# Altium footprint library KF2EDGK.PcbLib: 86 footprints (part 3 of 6)
Each footprint in its own frame and in the unit in brackets; x right, y up, seen from the top. Pads: shape width x height; smd on the part's side, far side on the other; paste and mask are expansions set on the pad; w line width, h text height; cw(c..) or ccw(c..) is an arc to the next point about the centre after c.
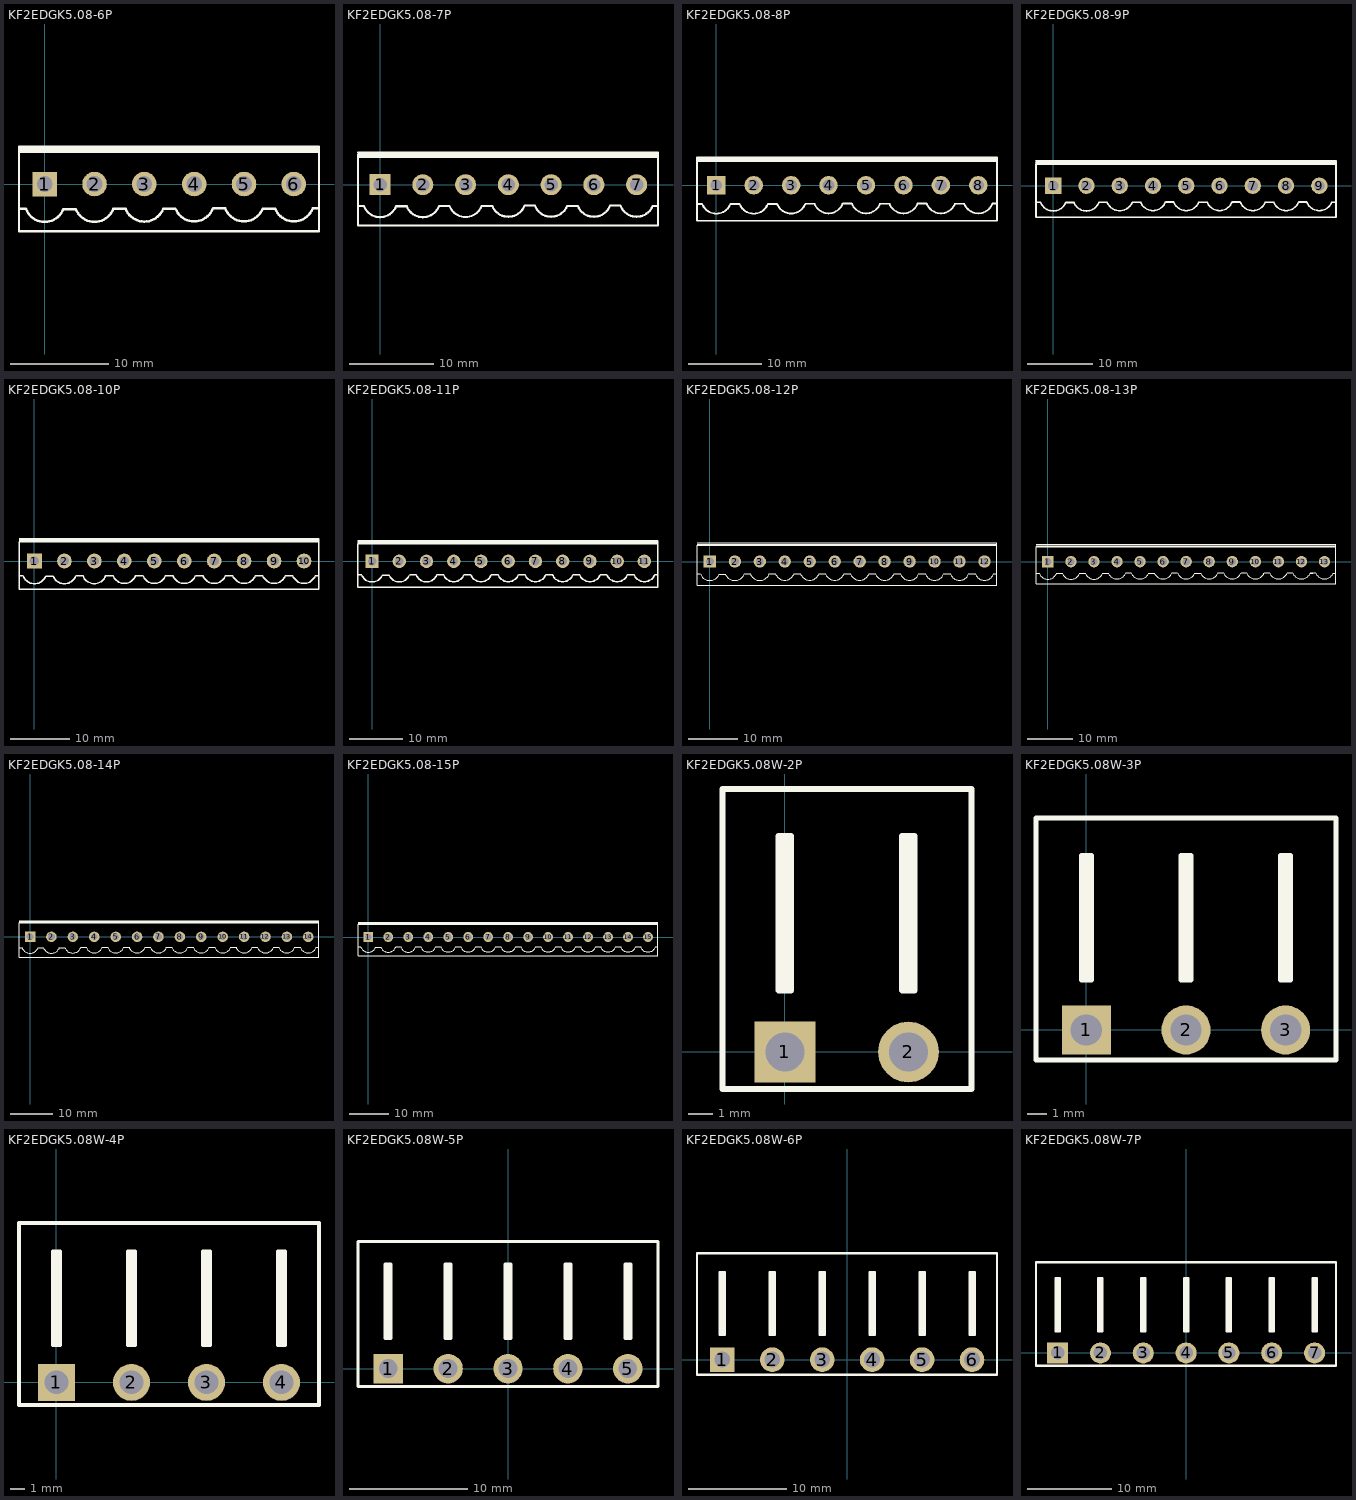
[diagram p2: the footprints below, top view; thin cyan lines are the x and y axes]

## KF2EDGK5.08-6P [mm]
pads (6):
  rect 2.5x2.5 hole 1.6: 1(0,0)
  round 2.5 hole 1.6: 2(5.08,0) 3(10.16,0) 4(15.24,0) 5(20.32,0) 6(25.4,0)
Top Overlay:
  lines w0.254: -2.62,3.302 27.965,3.302 ; -2.62,3.556 27.965,3.556 ; -2.54,-2.54 -1.93,-2.54 ; -1.905,-2.565 ccw(c0,-1.812) 1.905,-2.565 2.54,-2.565 3.175,-2.565 ccw(c5.08,-1.812) 6.985,-2.565 ; 7.01,-2.54 7.62,-2.54 8.255,-2.54 ccw(c10.16,-1.787) 12.065,-2.54 ; 12.09,-2.515 12.7,-2.515 13.335,-2.515 ccw(c15.24,-1.762) 17.145,-2.515 ; 17.17,-2.489 17.78,-2.489 18.39,-2.489 ; 18.415,-2.515 ccw(c20.32,-1.762) 22.225,-2.515 22.86,-2.515 23.495,-2.515 ccw(c25.4,-1.762) 27.305,-2.515 ; 27.33,-2.489 27.94,-2.489 ; -2.62,-4.826 -2.62,3.81 27.965,3.81 27.965,-4.826 -2.62,-4.826
3D body "KF2EDGK5.08-LI.STEP": height 11.25, standoff -2.95, extent 17.78,-4.758 22.86,3.742
3D body "KF2EDGK5.08-LI.STEP": height 11.25, standoff -2.95, extent 12.7,-4.758 17.78,3.742
3D body "KF2EDGK5.08-LI.STEP": height 11.25, standoff -2.95, extent 22.86,-4.758 27.94,3.742
3D body "KF2EDGK5.08-LI.STEP": height 11.25, standoff -2.95, extent 2.54,-4.758 7.62,3.742
3D body "KF2EDGK5.08-LI.STEP": height 11.25, standoff -2.95, extent -2.54,-4.758 2.54,3.742
3D body "KF2EDGK5.08-LI.STEP": height 11.25, standoff -2.95, extent 7.62,-4.758 12.7,3.742

## KF2EDGK5.08-7P [mm]
pads (7):
  rect 2.5x2.5 hole 1.6: 1(0,0)
  round 2.5 hole 1.6: 2(5.08,0) 3(10.16,0) 4(15.24,0) 5(20.32,0) 6(25.4,0) 7(30.48,0)
Top Overlay:
  lines w0.254: -2.62,3.302 33.02,3.302 ; -2.62,3.81 33.02,3.81 33.02,-4.826 -2.62,-4.826 -2.62,3.556 33.02,3.556 ; -2.54,-2.54 -1.93,-2.54 ; -1.905,-2.565 ccw(c0,-1.812) 1.905,-2.565 2.54,-2.565 3.175,-2.565 ccw(c5.08,-1.812) 6.985,-2.565 ; 7.01,-2.54 7.62,-2.54 8.255,-2.54 ccw(c10.16,-1.787) 12.065,-2.54 ; 12.09,-2.515 12.7,-2.515 13.335,-2.515 ccw(c15.24,-1.762) 17.145,-2.515 ; 17.17,-2.489 17.78,-2.489 18.39,-2.489 ; 18.415,-2.515 ccw(c20.32,-1.762) 22.225,-2.515 22.86,-2.515 23.495,-2.515 ccw(c25.4,-1.762) 27.305,-2.515 ; 27.33,-2.489 27.94,-2.489 28.55,-2.489 ; 28.575,-2.515 ccw(c30.48,-1.762) 32.385,-2.515 33.02,-2.515
3D body "KF2EDGK5.08-LI.STEP": height 11.25, standoff -2.95, extent 27.94,-4.758 33.02,3.742
3D body "KF2EDGK5.08-LI.STEP": height 11.25, standoff -2.95, extent 17.78,-4.758 22.86,3.742
3D body "KF2EDGK5.08-LI.STEP": height 11.25, standoff -2.95, extent 12.7,-4.758 17.78,3.742
3D body "KF2EDGK5.08-LI.STEP": height 11.25, standoff -2.95, extent 22.86,-4.758 27.94,3.742
3D body "KF2EDGK5.08-LI.STEP": height 11.25, standoff -2.95, extent 2.54,-4.758 7.62,3.742
3D body "KF2EDGK5.08-LI.STEP": height 11.25, standoff -2.95, extent -2.54,-4.758 2.54,3.742
3D body "KF2EDGK5.08-LI.STEP": height 11.25, standoff -2.95, extent 7.62,-4.758 12.7,3.742

## KF2EDGK5.08-8P [mm]
pads (8):
  rect 2.5x2.5 hole 1.6: 1(0,0)
  round 2.5 hole 1.6: 2(5.08,0) 3(10.16,0) 4(15.24,0) 5(20.32,0) 6(25.4,0) 7(30.48,0) 8(35.56,0)
Top Overlay:
  lines w0.254: -2.62,3.302 38.1,3.302 ; -2.62,3.556 38.1,3.556 ; -2.54,-2.54 -1.93,-2.54 ; -1.905,-2.565 ccw(c0,-1.812) 1.905,-2.565 2.54,-2.565 3.175,-2.565 ccw(c5.08,-1.812) 6.985,-2.565 ; 7.011,-2.54 7.62,-2.54 8.255,-2.54 ccw(c10.16,-1.787) 12.065,-2.54 ; 12.091,-2.515 12.7,-2.515 13.335,-2.515 ccw(c15.24,-1.761) 17.145,-2.515 ; 17.171,-2.489 17.78,-2.489 18.39,-2.489 ; 18.415,-2.515 ccw(c20.32,-1.761) 22.225,-2.515 22.86,-2.515 23.495,-2.515 ccw(c25.4,-1.761) 27.305,-2.515 ; 27.331,-2.489 27.94,-2.489 28.55,-2.489 ; 28.575,-2.515 ccw(c30.48,-1.761) 32.385,-2.515 33.02,-2.515 33.655,-2.515 ccw(c35.56,-1.761) 37.465,-2.515 ; 37.491,-2.489 38.1,-2.489 ; -2.62,-4.826 -2.62,3.81 38.1,3.81 38.1,-4.826 -2.62,-4.826
3D body "KF2EDGK5.08-LI.STEP": height 11.25, standoff -2.95, extent 33.02,-4.758 38.1,3.742
3D body "KF2EDGK5.08-LI.STEP": height 11.25, standoff -2.95, extent 27.94,-4.758 33.02,3.742
3D body "KF2EDGK5.08-LI.STEP": height 11.25, standoff -2.95, extent 17.78,-4.758 22.86,3.742
3D body "KF2EDGK5.08-LI.STEP": height 11.25, standoff -2.95, extent 12.7,-4.758 17.78,3.742
3D body "KF2EDGK5.08-LI.STEP": height 11.25, standoff -2.95, extent 22.86,-4.758 27.94,3.742
3D body "KF2EDGK5.08-LI.STEP": height 11.25, standoff -2.95, extent 2.54,-4.758 7.62,3.742
3D body "KF2EDGK5.08-LI.STEP": height 11.25, standoff -2.95, extent -2.54,-4.758 2.54,3.742
3D body "KF2EDGK5.08-LI.STEP": height 11.25, standoff -2.95, extent 7.62,-4.758 12.7,3.742

## KF2EDGK5.08-9P [mm]
pads (9):
  rect 2.5x2.5 hole 1.6: 1(0,0)
  round 2.5 hole 1.6: 2(5.08,0) 3(10.16,0) 4(15.24,0) 5(20.32,0) 6(25.4,0) 7(30.48,0) 8(35.56,0) 9(40.64,0)
Top Overlay:
  lines w0.254: -2.62,3.556 43.129,3.556 ; -2.62,3.81 43.18,3.81 43.18,-4.826 -2.62,-4.826 -2.62,3.302 43.18,3.302 ; -2.54,-2.54 -1.93,-2.54 ; -1.905,-2.565 ccw(c0,-1.812) 1.905,-2.565 2.54,-2.565 3.175,-2.565 ccw(c5.08,-1.812) 6.985,-2.565 ; 7.011,-2.54 7.62,-2.54 8.255,-2.54 ccw(c10.16,-1.787) 12.065,-2.54 ; 12.091,-2.515 12.7,-2.515 13.335,-2.515 ccw(c15.24,-1.761) 17.145,-2.515 ; 17.171,-2.489 17.78,-2.489 18.39,-2.489 ; 18.415,-2.515 ccw(c20.32,-1.761) 22.225,-2.515 22.86,-2.515 23.495,-2.515 ccw(c25.4,-1.761) 27.305,-2.515 ; 27.331,-2.489 27.94,-2.489 28.55,-2.489 ; 28.575,-2.515 ccw(c30.48,-1.761) 32.385,-2.515 33.02,-2.515 33.655,-2.515 ccw(c35.56,-1.761) 37.465,-2.515 ; 37.491,-2.489 38.1,-2.489 38.71,-2.489 ; 38.735,-2.515 ccw(c40.64,-1.761) 42.545,-2.515 43.18,-2.515
3D body "KF2EDGK5.08-LI.STEP": height 11.25, standoff -2.95, extent 33.02,-4.758 38.1,3.742
3D body "KF2EDGK5.08-LI.STEP": height 11.25, standoff -2.95, extent 27.94,-4.758 33.02,3.742
3D body "KF2EDGK5.08-LI.STEP": height 11.25, standoff -2.95, extent 38.1,-4.758 43.18,3.742
3D body "KF2EDGK5.08-LI.STEP": height 11.25, standoff -2.95, extent 17.78,-4.758 22.86,3.742
3D body "KF2EDGK5.08-LI.STEP": height 11.25, standoff -2.95, extent 12.7,-4.758 17.78,3.742
3D body "KF2EDGK5.08-LI.STEP": height 11.25, standoff -2.95, extent 22.86,-4.758 27.94,3.742
3D body "KF2EDGK5.08-LI.STEP": height 11.25, standoff -2.95, extent 2.54,-4.758 7.62,3.742
3D body "KF2EDGK5.08-LI.STEP": height 11.25, standoff -2.95, extent -2.54,-4.758 2.54,3.742
3D body "KF2EDGK5.08-LI.STEP": height 11.25, standoff -2.95, extent 7.62,-4.758 12.7,3.742

## KF2EDGK5.08-10P [mm]
pads (10):
  rect 2.5x2.5 hole 1.6: 1(0,0)
  round 2.5 hole 1.6: 2(5.08,0) 3(10.16,0) 4(15.24,0) 5(20.32,0) 6(25.4,0) 7(30.48,0) 8(35.56,0) 9(40.64,0) 10(45.72,0)
Top Overlay:
  lines w0.254: -2.62,3.556 43.129,3.556 48.26,3.556 ; -2.62,3.81 43.18,3.81 48.2,3.81 ; -2.54,-2.54 -1.93,-2.54 ; -1.905,-2.565 ccw(c0,-1.812) 1.905,-2.565 2.54,-2.565 3.175,-2.565 ccw(c5.08,-1.812) 6.985,-2.565 ; 7.011,-2.54 7.62,-2.54 8.255,-2.54 ccw(c10.16,-1.787) 12.065,-2.54 ; 12.091,-2.515 12.7,-2.515 13.335,-2.515 ccw(c15.24,-1.761) 17.145,-2.515 ; 17.171,-2.489 17.78,-2.489 18.39,-2.489 ; 18.415,-2.515 ccw(c20.32,-1.761) 22.225,-2.515 22.86,-2.515 23.495,-2.515 ccw(c25.4,-1.761) 27.305,-2.515 ; 27.331,-2.489 27.94,-2.489 28.55,-2.489 ; 28.575,-2.515 ccw(c30.48,-1.761) 32.385,-2.515 33.02,-2.515 33.655,-2.515 ccw(c35.56,-1.761) 37.465,-2.515 ; 37.491,-2.489 38.1,-2.489 38.71,-2.489 ; 38.735,-2.515 ccw(c40.64,-1.761) 42.545,-2.515 ; 42.571,-2.489 43.18,-2.489 43.79,-2.489 ; 42.799,-4.826 48.26,-4.826 48.26,3.81 ; 43.18,-4.826 -2.62,-4.826 -2.62,3.302 43.18,3.302 48.26,3.302 ; 43.815,-2.515 ccw(c45.72,-1.761) 47.625,-2.515 48.26,-2.515
3D body "KF2EDGK5.08-LI.STEP": height 11.25, standoff -2.95, extent 7.62,-4.758 12.7,3.742
3D body "KF2EDGK5.08-LI.STEP": height 11.25, standoff -2.95, extent -2.54,-4.758 2.54,3.742
3D body "KF2EDGK5.08-LI.STEP": height 11.25, standoff -2.95, extent 2.54,-4.758 7.62,3.742
3D body "KF2EDGK5.08-LI.STEP": height 11.25, standoff -2.95, extent 22.86,-4.758 27.94,3.742
3D body "KF2EDGK5.08-LI.STEP": height 11.25, standoff -2.95, extent 12.7,-4.758 17.78,3.742
3D body "KF2EDGK5.08-LI.STEP": height 11.25, standoff -2.95, extent 17.78,-4.758 22.86,3.742
3D body "KF2EDGK5.08-LI.STEP": height 11.25, standoff -2.95, extent 38.1,-4.758 43.18,3.742
3D body "KF2EDGK5.08-LI.STEP": height 11.25, standoff -2.95, extent 27.94,-4.758 33.02,3.742
3D body "KF2EDGK5.08-LI.STEP": height 11.25, standoff -2.95, extent 33.02,-4.758 38.1,3.742
3D body "KF2EDGK5.08-LI.STEP": height 11.25, standoff -2.95, extent 43.18,-4.758 48.26,3.742

## KF2EDGK5.08-11P [mm]
pads (11):
  rect 2.5x2.5 hole 1.6: 1(0,0)
  round 2.5 hole 1.6: 2(5.08,0) 3(10.16,0) 4(15.24,0) 5(20.32,0) 6(25.4,0) 7(30.48,0) 8(35.56,0) 9(40.64,0) 10(45.72,0) 11(50.8,0)
Top Overlay:
  lines w0.254: -2.62,3.556 43.129,3.556 48.26,3.556 ; -2.62,3.81 43.18,3.81 48.2,3.81 ; -2.54,-2.54 -1.93,-2.54 ; -1.905,-2.565 ccw(c0,-1.812) 1.905,-2.565 2.54,-2.565 3.175,-2.565 ccw(c5.08,-1.812) 6.985,-2.565 ; 7.011,-2.54 7.62,-2.54 8.255,-2.54 ccw(c10.16,-1.787) 12.065,-2.54 ; 12.091,-2.515 12.7,-2.515 13.335,-2.515 ccw(c15.24,-1.761) 17.145,-2.515 ; 17.171,-2.489 17.78,-2.489 18.39,-2.489 ; 18.415,-2.515 ccw(c20.32,-1.761) 22.225,-2.515 22.86,-2.515 23.495,-2.515 ccw(c25.4,-1.761) 27.305,-2.515 ; 27.331,-2.489 27.94,-2.489 28.55,-2.489 ; 28.575,-2.515 ccw(c30.48,-1.761) 32.385,-2.515 33.02,-2.515 33.655,-2.515 ccw(c35.56,-1.761) 37.465,-2.515 ; 37.491,-2.489 38.1,-2.489 38.71,-2.489 ; 38.735,-2.515 ccw(c40.64,-1.761) 42.545,-2.515 ; 42.571,-2.489 43.18,-2.489 43.79,-2.489 ; 42.799,-4.826 48.26,-4.826 ; 43.18,-4.826 -2.62,-4.826 -2.62,3.302 43.18,3.302 48.26,3.302 53.34,3.302 ; 43.815,-2.515 ccw(c45.72,-1.761) 47.625,-2.515 48.26,-2.515 ; 47.651,-2.489 48.26,-2.489 48.87,-2.489 ; 47.879,-4.826 53.34,-4.826 53.34,3.81 ; 48.209,3.556 53.34,3.556 ; 48.26,3.81 53.28,3.81 ; 48.895,-2.515 ccw(c50.8,-1.761) 52.705,-2.515 53.34,-2.515
3D body "KF2EDGK5.08-LI.STEP": height 11.25, standoff -2.95, extent 48.26,-4.758 53.34,3.742
3D body "KF2EDGK5.08-LI.STEP": height 11.25, standoff -2.95, extent 43.18,-4.758 48.26,3.742
3D body "KF2EDGK5.08-LI.STEP": height 11.25, standoff -2.95, extent 33.02,-4.758 38.1,3.742
3D body "KF2EDGK5.08-LI.STEP": height 11.25, standoff -2.95, extent 27.94,-4.758 33.02,3.742
3D body "KF2EDGK5.08-LI.STEP": height 11.25, standoff -2.95, extent 38.1,-4.758 43.18,3.742
3D body "KF2EDGK5.08-LI.STEP": height 11.25, standoff -2.95, extent 17.78,-4.758 22.86,3.742
3D body "KF2EDGK5.08-LI.STEP": height 11.25, standoff -2.95, extent 12.7,-4.758 17.78,3.742
3D body "KF2EDGK5.08-LI.STEP": height 11.25, standoff -2.95, extent 22.86,-4.758 27.94,3.742
3D body "KF2EDGK5.08-LI.STEP": height 11.25, standoff -2.95, extent 2.54,-4.758 7.62,3.742
3D body "KF2EDGK5.08-LI.STEP": height 11.25, standoff -2.95, extent -2.54,-4.758 2.54,3.742
3D body "KF2EDGK5.08-LI.STEP": height 11.25, standoff -2.95, extent 7.62,-4.758 12.7,3.742

## KF2EDGK5.08-12P [mm] "立插端"
pads (12):
  rect 2.5x2.5 hole 1.6: 1(0,0)
  round 2.5 hole 1.6: 2(5.08,0) 3(10.16,0) 4(15.24,0) 5(20.32,0) 6(25.4,0) 7(30.48,0) 8(35.56,0) 9(40.64,0) 10(45.72,0) 11(50.8,0) 12(55.88,0)
Top Overlay:
  lines w0.254: -2.62,3.556 43.129,3.556 48.26,3.556 ; -2.62,3.81 43.18,3.81 48.2,3.81 ; -2.54,-2.54 -1.93,-2.54 ; -1.905,-2.565 ccw(c0,-1.812) 1.905,-2.565 2.54,-2.565 3.175,-2.565 ccw(c5.08,-1.812) 6.985,-2.565 ; 7.011,-2.54 7.62,-2.54 8.255,-2.54 ccw(c10.16,-1.787) 12.065,-2.54 ; 12.091,-2.515 12.7,-2.515 13.335,-2.515 ccw(c15.24,-1.761) 17.145,-2.515 ; 17.171,-2.489 17.78,-2.489 18.39,-2.489 ; 18.415,-2.515 ccw(c20.32,-1.761) 22.225,-2.515 22.86,-2.515 23.495,-2.515 ccw(c25.4,-1.761) 27.305,-2.515 ; 27.331,-2.489 27.94,-2.489 28.55,-2.489 ; 28.575,-2.515 ccw(c30.48,-1.761) 32.385,-2.515 33.02,-2.515 33.655,-2.515 ccw(c35.56,-1.761) 37.465,-2.515 ; 37.491,-2.489 38.1,-2.489 38.71,-2.489 ; 38.735,-2.515 ccw(c40.64,-1.761) 42.545,-2.515 ; 42.571,-2.489 43.18,-2.489 43.79,-2.489 ; 42.799,-4.826 48.26,-4.826 ; 43.18,-4.826 -2.62,-4.826 -2.62,3.302 43.18,3.302 48.26,3.302 53.34,3.302 58.42,3.302 ; 43.815,-2.515 ccw(c45.72,-1.761) 47.625,-2.515 ; 47.651,-2.489 48.26,-2.489 48.87,-2.489 ; 47.879,-4.826 53.34,-4.826 ; 48.209,3.556 53.34,3.556 ; 48.26,3.81 53.28,3.81 ; 48.895,-2.515 ccw(c50.8,-1.761) 52.705,-2.515 ; 52.73,-2.489 53.34,-2.489 53.95,-2.489 ; 52.959,-4.826 58.42,-4.826 58.42,3.81 ; 53.289,3.556 58.42,3.556 ; 53.34,3.81 58.36,3.81 ; 53.975,-2.515 ccw(c55.88,-1.762) 57.785,-2.515 58.42,-2.515
3D body "KF2EDGK5.08-LI.STEP": height 11.25, standoff -2.95, extent 48.26,-4.758 53.34,3.742
3D body "KF2EDGK5.08-LI.STEP": height 11.25, standoff -2.95, extent 43.18,-4.758 48.26,3.742
3D body "KF2EDGK5.08-LI.STEP": height 11.25, standoff -2.95, extent 53.34,-4.758 58.42,3.742
3D body "KF2EDGK5.08-LI.STEP": height 11.25, standoff -2.95, extent 33.02,-4.758 38.1,3.742
3D body "KF2EDGK5.08-LI.STEP": height 11.25, standoff -2.95, extent 27.94,-4.758 33.02,3.742
3D body "KF2EDGK5.08-LI.STEP": height 11.25, standoff -2.95, extent 38.1,-4.758 43.18,3.742
3D body "KF2EDGK5.08-LI.STEP": height 11.25, standoff -2.95, extent 17.78,-4.758 22.86,3.742
3D body "KF2EDGK5.08-LI.STEP": height 11.25, standoff -2.95, extent 12.7,-4.758 17.78,3.742
3D body "KF2EDGK5.08-LI.STEP": height 11.25, standoff -2.95, extent 22.86,-4.758 27.94,3.742
3D body "KF2EDGK5.08-LI.STEP": height 11.25, standoff -2.95, extent 2.54,-4.758 7.62,3.742
3D body "KF2EDGK5.08-LI.STEP": height 11.25, standoff -2.95, extent -2.54,-4.758 2.54,3.742
3D body "KF2EDGK5.08-LI.STEP": height 11.25, standoff -2.95, extent 7.62,-4.758 12.7,3.742

## KF2EDGK5.08-13P [mm]
pads (13):
  rect 2.5x2.5 hole 1.6: 1(0,0)
  round 2.5 hole 1.6: 2(5.08,0) 3(10.16,0) 4(15.24,0) 5(20.32,0) 6(25.4,0) 7(30.48,0) 8(35.56,0) 9(40.64,0) 10(45.72,0) 11(50.8,0) 12(55.88,0) 13(60.96,0)
Top Overlay:
  lines w0.254: -2.62,3.556 43.129,3.556 48.26,3.556 ; -2.62,3.81 43.18,3.81 48.2,3.81 ; -2.54,-2.54 -1.93,-2.54 ; -1.905,-2.565 ccw(c0,-1.812) 1.905,-2.565 2.54,-2.565 3.175,-2.565 ccw(c5.08,-1.812) 6.985,-2.565 ; 7.011,-2.54 7.62,-2.54 8.255,-2.54 ccw(c10.16,-1.787) 12.065,-2.54 ; 12.091,-2.515 12.7,-2.515 13.335,-2.515 ccw(c15.24,-1.761) 17.145,-2.515 ; 17.171,-2.489 17.78,-2.489 18.39,-2.489 ; 18.415,-2.515 ccw(c20.32,-1.761) 22.225,-2.515 22.86,-2.515 23.495,-2.515 ccw(c25.4,-1.761) 27.305,-2.515 ; 27.331,-2.489 27.94,-2.489 28.55,-2.489 ; 28.575,-2.515 ccw(c30.48,-1.761) 32.385,-2.515 33.02,-2.515 33.655,-2.515 ccw(c35.56,-1.761) 37.465,-2.515 ; 37.491,-2.489 38.1,-2.489 38.71,-2.489 ; 38.735,-2.515 ccw(c40.64,-1.761) 42.545,-2.515 ; 42.571,-2.489 43.18,-2.489 43.79,-2.489 ; 42.799,-4.826 48.26,-4.826 ; 43.18,-4.826 -2.62,-4.826 -2.62,3.302 43.18,3.302 48.26,3.302 53.34,3.302 58.42,3.302 63.5,3.302 ; 43.815,-2.515 ccw(c45.72,-1.761) 47.625,-2.515 ; 47.651,-2.489 48.26,-2.489 48.87,-2.489 ; 47.879,-4.826 53.34,-4.826 ; 48.209,3.556 53.34,3.556 ; 48.26,3.81 53.28,3.81 ; 48.895,-2.515 ccw(c50.8,-1.761) 52.705,-2.515 ; 52.73,-2.489 53.34,-2.489 53.95,-2.489 ; 52.959,-4.826 58.42,-4.826 ; 53.289,3.556 58.42,3.556 ; 53.34,3.81 58.36,3.81 ; 53.975,-2.515 ccw(c55.88,-1.762) 57.785,-2.515 58.42,-2.515 ; 57.81,-2.489 58.42,-2.489 59.03,-2.489 ; 58.039,-4.826 63.5,-4.826 ; 58.369,3.556 63.5,3.556 ; 58.42,3.81 63.44,3.81 ; 59.055,-2.515 ccw(c60.96,-1.762) 62.865,-2.515 63.5,-2.515 ; 63.5,-4.75 63.5,3.75
3D body "KF2EDGK5.08-LI.STEP": height 11.25, standoff -2.95, extent 58.42,-4.758 63.5,3.742
3D body "KF2EDGK5.08-LI.STEP": height 11.25, standoff -2.95, extent 48.26,-4.758 53.34,3.742
3D body "KF2EDGK5.08-LI.STEP": height 11.25, standoff -2.95, extent 43.18,-4.758 48.26,3.742
3D body "KF2EDGK5.08-LI.STEP": height 11.25, standoff -2.95, extent 53.34,-4.758 58.42,3.742
3D body "KF2EDGK5.08-LI.STEP": height 11.25, standoff -2.95, extent 33.02,-4.758 38.1,3.742
3D body "KF2EDGK5.08-LI.STEP": height 11.25, standoff -2.95, extent 27.94,-4.758 33.02,3.742
3D body "KF2EDGK5.08-LI.STEP": height 11.25, standoff -2.95, extent 38.1,-4.758 43.18,3.742
3D body "KF2EDGK5.08-LI.STEP": height 11.25, standoff -2.95, extent 17.78,-4.758 22.86,3.742
3D body "KF2EDGK5.08-LI.STEP": height 11.25, standoff -2.95, extent 12.7,-4.758 17.78,3.742
3D body "KF2EDGK5.08-LI.STEP": height 11.25, standoff -2.95, extent 22.86,-4.758 27.94,3.742
3D body "KF2EDGK5.08-LI.STEP": height 11.25, standoff -2.95, extent 2.54,-4.758 7.62,3.742
3D body "KF2EDGK5.08-LI.STEP": height 11.25, standoff -2.95, extent -2.54,-4.758 2.54,3.742
3D body "KF2EDGK5.08-LI.STEP": height 11.25, standoff -2.95, extent 7.62,-4.758 12.7,3.742

## KF2EDGK5.08-14P [mm]
pads (14):
  rect 2.5x2.5 hole 1.6: 1(0,0)
  round 2.5 hole 1.6: 2(5.08,0) 3(10.16,0) 4(15.24,0) 5(20.32,0) 6(25.4,0) 7(30.48,0) 8(35.56,0) 9(40.64,0) 10(45.72,0) 11(50.8,0) 12(55.88,0) 13(60.96,0) 14(66.04,0)
Top Overlay:
  lines w0.254: -2.62,3.556 43.129,3.556 48.26,3.556 ; -2.62,3.81 43.18,3.81 48.2,3.81 ; -2.54,-2.54 -1.93,-2.54 ; -1.905,-2.565 ccw(c0,-1.812) 1.905,-2.565 2.54,-2.565 3.175,-2.565 ccw(c5.08,-1.812) 6.985,-2.565 ; 7.011,-2.54 7.62,-2.54 8.255,-2.54 ccw(c10.16,-1.787) 12.065,-2.54 ; 12.091,-2.515 12.7,-2.515 13.335,-2.515 ccw(c15.24,-1.761) 17.145,-2.515 ; 17.171,-2.489 17.78,-2.489 18.39,-2.489 ; 18.415,-2.515 ccw(c20.32,-1.761) 22.225,-2.515 22.86,-2.515 23.495,-2.515 ccw(c25.4,-1.761) 27.305,-2.515 ; 27.331,-2.489 27.94,-2.489 28.55,-2.489 ; 28.575,-2.515 ccw(c30.48,-1.761) 32.385,-2.515 33.02,-2.515 33.655,-2.515 ccw(c35.56,-1.761) 37.465,-2.515 ; 37.491,-2.489 38.1,-2.489 38.71,-2.489 ; 38.735,-2.515 ccw(c40.64,-1.761) 42.545,-2.515 ; 42.571,-2.489 43.18,-2.489 43.79,-2.489 ; 42.799,-4.826 48.26,-4.826 ; 43.18,-4.826 -2.62,-4.826 -2.62,3.302 43.18,3.302 48.26,3.302 53.34,3.302 58.42,3.302 63.5,3.302 68.58,3.302 ; 43.815,-2.515 ccw(c45.72,-1.761) 47.625,-2.515 ; 47.651,-2.489 48.26,-2.489 48.87,-2.489 ; 47.879,-4.826 53.34,-4.826 ; 48.209,3.556 53.34,3.556 ; 48.26,3.81 53.28,3.81 ; 48.895,-2.515 ccw(c50.8,-1.761) 52.705,-2.515 ; 52.73,-2.489 53.34,-2.489 53.95,-2.489 ; 52.959,-4.826 58.42,-4.826 ; 53.289,3.556 58.42,3.556 ; 53.34,3.81 58.36,3.81 ; 53.975,-2.515 ccw(c55.88,-1.762) 57.785,-2.515 58.42,-2.515 ; 57.81,-2.489 58.42,-2.489 59.03,-2.489 ; 58.039,-4.826 63.5,-4.826 ; 58.369,3.556 63.5,3.556 ; 58.42,3.81 63.44,3.81 ; 59.055,-2.515 ccw(c60.96,-1.762) 62.865,-2.515 ; 62.89,-2.489 63.5,-2.489 64.11,-2.489 ; 63.119,-4.826 68.58,-4.826 ; 63.449,3.556 68.58,3.556 ; 63.5,3.81 68.52,3.81 ; 64.135,-2.515 ccw(c66.04,-1.762) 67.945,-2.515 68.58,-2.515 ; 68.58,-4.75 68.58,3.75 ; 62.865,-2.515 63.5,-2.515 62.865,-2.515
3D body "KF2EDGK5.08-LI.STEP": height 11.25, standoff -2.95, extent 63.5,-4.758 68.58,3.742
3D body "KF2EDGK5.08-LI.STEP": height 11.25, standoff -2.95, extent 58.42,-4.758 63.5,3.742
3D body "KF2EDGK5.08-LI.STEP": height 11.25, standoff -2.95, extent 48.26,-4.758 53.34,3.742
3D body "KF2EDGK5.08-LI.STEP": height 11.25, standoff -2.95, extent 43.18,-4.758 48.26,3.742
3D body "KF2EDGK5.08-LI.STEP": height 11.25, standoff -2.95, extent 53.34,-4.758 58.42,3.742
3D body "KF2EDGK5.08-LI.STEP": height 11.25, standoff -2.95, extent 33.02,-4.758 38.1,3.742
3D body "KF2EDGK5.08-LI.STEP": height 11.25, standoff -2.95, extent 27.94,-4.758 33.02,3.742
3D body "KF2EDGK5.08-LI.STEP": height 11.25, standoff -2.95, extent 38.1,-4.758 43.18,3.742
3D body "KF2EDGK5.08-LI.STEP": height 11.25, standoff -2.95, extent 17.78,-4.758 22.86,3.742
3D body "KF2EDGK5.08-LI.STEP": height 11.25, standoff -2.95, extent 12.7,-4.758 17.78,3.742
3D body "KF2EDGK5.08-LI.STEP": height 11.25, standoff -2.95, extent 22.86,-4.758 27.94,3.742
3D body "KF2EDGK5.08-LI.STEP": height 11.25, standoff -2.95, extent 2.54,-4.758 7.62,3.742
3D body "KF2EDGK5.08-LI.STEP": height 11.25, standoff -2.95, extent -2.54,-4.758 2.54,3.742
3D body "KF2EDGK5.08-LI.STEP": height 11.25, standoff -2.95, extent 7.62,-4.758 12.7,3.742

## KF2EDGK5.08-15P [mm]
pads (15):
  rect 2.5x2.5 hole 1.6: 1(0,0)
  round 2.5 hole 1.6: 2(5.08,0) 3(10.16,0) 4(15.24,0) 5(20.32,0) 6(25.4,0) 7(30.48,0) 8(35.56,0) 9(40.64,0) 10(45.72,0) 11(50.8,0) 12(55.88,0) 13(60.96,0) 14(66.04,0) 15(71.12,0)
Top Overlay:
  lines w0.254: -2.62,3.556 43.129,3.556 48.26,3.556 ; -2.62,3.81 43.18,3.81 48.2,3.81 ; -2.54,-2.54 -1.93,-2.54 ; -1.905,-2.565 ccw(c0,-1.812) 1.905,-2.565 2.54,-2.565 3.175,-2.565 ccw(c5.08,-1.812) 6.985,-2.565 ; 7.011,-2.54 7.62,-2.54 8.255,-2.54 ccw(c10.16,-1.787) 12.065,-2.54 ; 12.091,-2.515 12.7,-2.515 13.335,-2.515 ccw(c15.24,-1.761) 17.145,-2.515 ; 17.171,-2.489 17.78,-2.489 18.39,-2.489 ; 18.415,-2.515 ccw(c20.32,-1.761) 22.225,-2.515 22.86,-2.515 23.495,-2.515 ccw(c25.4,-1.761) 27.305,-2.515 ; 27.331,-2.489 27.94,-2.489 28.55,-2.489 ; 28.575,-2.515 ccw(c30.48,-1.761) 32.385,-2.515 33.02,-2.515 33.655,-2.515 ccw(c35.56,-1.761) 37.465,-2.515 ; 37.491,-2.489 38.1,-2.489 38.71,-2.489 ; 38.735,-2.515 ccw(c40.64,-1.761) 42.545,-2.515 ; 42.571,-2.489 43.18,-2.489 43.79,-2.489 ; 42.799,-4.826 48.26,-4.826 ; 43.18,-4.826 -2.62,-4.826 -2.62,3.302 43.18,3.302 48.26,3.302 53.34,3.302 58.42,3.302 63.5,3.302 68.58,3.302 73.66,3.302 ; 43.815,-2.515 ccw(c45.72,-1.761) 47.625,-2.515 ; 47.651,-2.489 48.26,-2.489 48.87,-2.489 ; 47.879,-4.826 53.34,-4.826 ; 48.209,3.556 53.34,3.556 ; 48.26,3.81 53.28,3.81 ; 48.895,-2.515 ccw(c50.8,-1.761) 52.705,-2.515 ; 52.73,-2.489 53.34,-2.489 53.95,-2.489 ; 52.959,-4.826 58.42,-4.826 ; 53.289,3.556 58.42,3.556 ; 53.34,3.81 58.36,3.81 ; 53.975,-2.515 ccw(c55.88,-1.762) 57.785,-2.515 58.42,-2.515 ; 57.81,-2.489 58.42,-2.489 59.03,-2.489 ; 58.039,-4.826 63.5,-4.826 ; 58.369,3.556 63.5,3.556 ; 58.42,3.81 63.44,3.81 ; 59.055,-2.515 ccw(c60.96,-1.762) 62.865,-2.515 ; 62.89,-2.489 63.5,-2.489 64.11,-2.489 ; 63.119,-4.826 68.58,-4.826 ; 63.449,3.556 68.58,3.556 ; 63.5,3.81 68.52,3.81 ; 64.135,-2.515 ccw(c66.04,-1.762) 67.945,-2.515 ; 67.97,-2.489 68.58,-2.489 69.19,-2.489 ; 68.199,-4.826 73.66,-4.826 ; 68.529,3.556 73.66,3.556 ; 68.58,3.81 73.6,3.81 ; 69.215,-2.515 ccw(c71.12,-1.762) 73.025,-2.515 73.66,-2.515 ; 73.66,-4.75 73.66,3.75 ; 62.865,-2.515 63.5,-2.515 62.865,-2.515 ; 67.945,-2.515 68.58,-2.515 ; 67.945,-2.515 68.58,-2.515 ; 67.945,-2.515 68.58,-2.515
3D body "KF2EDGK5.08-LI.STEP": height 11.25, standoff -2.95, extent 63.5,-4.758 68.58,3.742
3D body "KF2EDGK5.08-LI.STEP": height 11.25, standoff -2.95, extent 58.42,-4.758 63.5,3.742
3D body "KF2EDGK5.08-LI.STEP": height 11.25, standoff -2.95, extent 68.58,-4.758 73.66,3.742
3D body "KF2EDGK5.08-LI.STEP": height 11.25, standoff -2.95, extent 48.26,-4.758 53.34,3.742
3D body "KF2EDGK5.08-LI.STEP": height 11.25, standoff -2.95, extent 43.18,-4.758 48.26,3.742
3D body "KF2EDGK5.08-LI.STEP": height 11.25, standoff -2.95, extent 53.34,-4.758 58.42,3.742
3D body "KF2EDGK5.08-LI.STEP": height 11.25, standoff -2.95, extent 33.02,-4.758 38.1,3.742
3D body "KF2EDGK5.08-LI.STEP": height 11.25, standoff -2.95, extent 27.94,-4.758 33.02,3.742
3D body "KF2EDGK5.08-LI.STEP": height 11.25, standoff -2.95, extent 38.1,-4.758 43.18,3.742
3D body "KF2EDGK5.08-LI.STEP": height 11.25, standoff -2.95, extent 17.78,-4.758 22.86,3.742
3D body "KF2EDGK5.08-LI.STEP": height 11.25, standoff -2.95, extent 12.7,-4.758 17.78,3.742
3D body "KF2EDGK5.08-LI.STEP": height 11.25, standoff -2.95, extent 22.86,-4.758 27.94,3.742
3D body "KF2EDGK5.08-LI.STEP": height 11.25, standoff -2.95, extent 2.54,-4.758 7.62,3.742
3D body "KF2EDGK5.08-LI.STEP": height 11.25, standoff -2.95, extent -2.54,-4.758 2.54,3.742
3D body "KF2EDGK5.08-LI.STEP": height 11.25, standoff -2.95, extent 7.62,-4.758 12.7,3.742

## KF2EDGK5.08W-2P [mm]
pads (2):
  rect 2.5x2.5 hole 1.6: 1(0,0)
  round 2.5 hole 1.6: 2(5.08,0)
Top Overlay:
  lines w0.254: 0,2.54 0,8.89 ; 5.08,2.54 5.08,8.89 ; 0,8.89 -0.254,8.89 -0.254,2.54 0.254,2.54 0.254,8.89 0,8.89 ; 5.08,8.89 5.334,8.89 5.334,2.54 4.826,2.54 4.826,8.89 5.08,8.89 ; -2.565,-1.524 -2.565,10.82 7.671,10.82 7.671,-1.524 -2.565,-1.524
3D body "KF2EDGK5.08-WI.STEP": height 8.5, standoff -3, extent -2.54,-0.57 2.54,10.73
3D body "KF2EDGK5.08-WI.STEP": height 8.5, standoff -3, extent 2.54,-0.57 7.62,10.73

## KF2EDGK5.08W-3P [mm]
pads (3):
  rect 2.5x2.5 hole 1.6: 1(0,0)
  round 2.5 hole 1.6: 2(5.08,0) 3(10.16,0)
Top Overlay:
  lines w0.254: 0,2.54 0,8.89 ; 5.08,2.54 5.08,8.89 ; 10.16,2.54 10.16,8.89 ; 0,8.89 -0.254,8.89 -0.254,2.54 0.254,2.54 0.254,8.89 0,8.89 ; 5.08,8.89 4.826,8.89 4.826,2.54 5.334,2.54 5.334,8.89 5.08,8.89 ; 10.16,8.89 9.906,8.89 9.906,2.54 10.414,2.54 10.414,8.89 10.16,8.89 ; -2.565,-1.524 -2.565,10.795 12.725,10.795 12.725,-1.524 -2.565,-1.524
3D body "KF2EDGK5.08-WI.STEP": height 8.5, standoff -3, extent 7.62,-0.57 12.7,10.73
3D body "KF2EDGK5.08-WI.STEP": height 8.5, standoff -3, extent -2.54,-0.57 2.54,10.73
3D body "KF2EDGK5.08-WI.STEP": height 8.5, standoff -3, extent 2.54,-0.57 7.62,10.73

## KF2EDGK5.08W-4P [mm]
pads (4):
  rect 2.5x2.5 hole 1.6: 1(0,0)
  round 2.5 hole 1.6: 2(5.08,0) 3(10.16,0) 4(15.24,0)
Top Overlay:
  lines w0.254: 0,2.54 0,8.89 ; 5.08,2.54 5.08,8.89 ; 10.16,2.54 10.16,8.89 ; 15.24,2.54 15.24,8.89 ; 0,8.89 -0.254,8.89 -0.254,2.54 0.254,2.54 0.254,8.89 0,8.89 ; 5.08,8.89 5.334,8.89 5.334,2.54 4.826,2.54 4.826,8.89 5.08,8.89 ; 10.16,8.89 10.414,8.89 10.414,2.54 9.906,2.54 9.906,8.89 10.16,8.89 ; 15.24,8.89 15.494,8.89 15.494,2.54 14.986,2.54 14.986,8.89 15.24,8.89 ; -2.54,-1.524 -2.54,10.795 17.78,10.795 17.78,-1.524 -2.54,-1.524
3D body "KF2EDGK5.08-WI.STEP": height 8.5, standoff -3, extent 12.7,-0.57 17.78,10.73
3D body "KF2EDGK5.08-WI.STEP": height 8.5, standoff -3, extent 7.62,-0.57 12.7,10.73
3D body "KF2EDGK5.08-WI.STEP": height 8.5, standoff -3, extent 2.54,-0.57 7.62,10.73
3D body "KF2EDGK5.08-WI.STEP": height 8.5, standoff -3, extent -2.54,-0.57 2.54,10.73

## KF2EDGK5.08W-5P [mm]
pads (5):
  rect 2.5x2.5 hole 1.6: 1(-10.16,0)
  round 2.5 hole 1.6: 2(-5.08,0) 3(0,0) 4(5.08,0) 5(10.16,0)
Top Overlay:
  lines w0.254: -10.16,2.54 -10.16,8.89 ; -5.08,2.54 -5.08,8.89 ; 0,2.54 0,8.89 ; 5.08,2.54 5.08,8.89 ; 10.16,2.54 10.16,8.89 ; -10.16,8.89 -10.414,8.89 -10.414,2.54 -9.906,2.54 -9.906,8.89 -10.16,8.89 ; -5.08,8.89 -5.334,8.89 -5.334,2.54 -4.826,2.54 -4.826,8.89 -5.08,8.89 ; 0,8.89 -0.254,8.89 -0.254,2.54 0.254,2.54 0.254,8.89 0,8.89 ; 5.08,8.89 4.826,8.89 4.826,2.54 5.334,2.54 5.334,8.89 5.08,8.89 ; 10.16,8.89 9.906,8.89 9.906,2.54 10.414,2.54 10.414,8.89 10.16,8.89 ; -12.725,-1.524 -12.725,10.795 12.725,10.795 12.725,-1.524 -12.725,-1.524
3D body "KF2EDGK5.08-WI.STEP": height 8.5, standoff -3, extent 7.62,-0.57 12.7,10.73
3D body "KF2EDGK5.08-WI.STEP": height 8.5, standoff -3, extent -12.7,-0.57 -7.62,10.73
3D body "KF2EDGK5.08-WI.STEP": height 8.5, standoff -3, extent -7.62,-0.57 -2.54,10.73
3D body "KF2EDGK5.08-WI.STEP": height 8.5, standoff -3, extent -2.54,-0.57 2.54,10.73
3D body "KF2EDGK5.08-WI.STEP": height 8.5, standoff -3, extent 2.54,-0.57 7.62,10.73

## KF2EDGK5.08W-6P [mm]
pads (6):
  rect 2.5x2.5 hole 1.6: 1(-12.7,0)
  round 2.5 hole 1.6: 2(-7.62,0) 3(-2.54,0) 4(2.54,0) 5(7.62,0) 6(12.7,0)
Top Overlay:
  lines w0.254: -12.7,2.54 -12.7,8.89 ; -7.62,2.54 -7.62,8.89 ; -2.54,2.54 -2.54,8.89 ; 2.54,2.54 2.54,8.89 ; 7.62,2.54 7.62,8.89 ; 12.7,2.54 12.7,8.89 ; -12.7,8.89 -12.954,8.89 -12.954,2.54 -12.446,2.54 -12.446,8.89 -12.7,8.89 ; -7.62,8.89 -7.366,8.89 -7.366,2.54 -7.874,2.54 -7.874,8.89 -7.62,8.89 ; -2.54,8.89 -2.286,8.89 -2.286,2.54 -2.794,2.54 -2.794,8.89 -2.54,8.89 ; 2.54,8.89 2.794,8.89 2.794,2.54 2.286,2.54 2.286,8.89 2.54,8.89 ; 7.62,8.89 7.874,8.89 7.874,2.54 7.366,2.54 7.366,8.89 7.62,8.89 ; 12.7,8.89 12.954,8.89 12.954,2.54 12.446,2.54 12.446,8.89 12.7,8.89 ; -15.265,-1.524 -15.265,10.8 15.24,10.8 15.24,-1.524 -15.265,-1.524
3D body "KF2EDGK5.08-WI.STEP": height 8.5, standoff -3, extent 0,-0.57 5.08,10.73
3D body "KF2EDGK5.08-WI.STEP": height 8.5, standoff -3, extent -5.08,-0.57 0,10.73
3D body "KF2EDGK5.08-WI.STEP": height 8.5, standoff -3, extent -10.16,-0.57 -5.08,10.73
3D body "KF2EDGK5.08-WI.STEP": height 8.5, standoff -3, extent -15.24,-0.57 -10.16,10.73
3D body "KF2EDGK5.08-WI.STEP": height 8.5, standoff -3, extent 10.16,-0.57 15.24,10.73
3D body "KF2EDGK5.08-WI.STEP": height 8.5, standoff -3, extent 5.08,-0.57 10.16,10.73

## KF2EDGK5.08W-7P [mm]
pads (7):
  rect 2.5x2.5 hole 1.6: 1(-15.24,0)
  round 2.5 hole 1.6: 2(-10.16,0) 3(-5.08,0) 4(0,0) 5(5.08,0) 6(10.16,0) 7(15.24,0)
Top Overlay:
  lines w0.254: -15.24,2.54 -15.24,8.89 ; -10.16,2.54 -10.16,8.89 ; -5.08,2.54 -5.08,8.89 ; 0,2.54 0,8.89 ; 5.08,2.54 5.08,8.89 ; 10.16,2.54 10.16,8.89 ; 15.24,2.54 15.24,8.89 ; -15.24,8.89 -14.986,8.89 -14.986,2.54 -15.494,2.54 -15.494,8.89 -15.24,8.89 ; -10.16,8.89 -10.414,8.89 -10.414,2.54 -9.906,2.54 -9.906,8.89 -10.16,8.89 ; -5.08,8.89 -5.334,8.89 -5.334,2.54 -4.826,2.54 -4.826,8.89 -5.08,8.89 ; 0,8.89 -0.254,8.89 -0.254,2.54 0.254,2.54 0.254,8.89 0,8.89 ; 5.08,8.89 4.826,8.89 4.826,2.54 5.334,2.54 5.334,8.89 5.08,8.89 ; 10.16,8.89 9.906,8.89 9.906,2.54 10.414,2.54 10.414,8.89 10.16,8.89 ; 15.24,8.89 14.986,8.89 14.986,2.54 15.494,2.54 15.494,8.89 15.24,8.89 ; -17.805,-1.524 17.78,-1.524 17.78,10.77 -17.805,10.77 -17.805,-1.524
3D body "KF2EDGK5.08-WI.STEP": height 8.5, standoff -3, extent 2.54,-0.57 7.62,10.73
3D body "KF2EDGK5.08-WI.STEP": height 8.5, standoff -3, extent 7.62,-0.57 12.7,10.73
3D body "KF2EDGK5.08-WI.STEP": height 8.5, standoff -3, extent 12.7,-0.57 17.78,10.73
3D body "KF2EDGK5.08-WI.STEP": height 8.5, standoff -3, extent -17.78,-0.57 -12.7,10.73
3D body "KF2EDGK5.08-WI.STEP": height 8.5, standoff -3, extent -12.7,-0.57 -7.62,10.73
3D body "KF2EDGK5.08-WI.STEP": height 8.5, standoff -3, extent -7.62,-0.57 -2.54,10.73
3D body "KF2EDGK5.08-WI.STEP": height 8.5, standoff -3, extent -2.54,-0.57 2.54,10.73